# Altium footprint library Trans_STMicroelectronics_TIP31C_eec_MFG.PcbLib: 1 footprints
Each footprint in its own frame and in the unit in brackets; x right, y up, seen from the top. Pads: shape width x height; smd on the part's side, far side on the other; paste and mask are expansions set on the pad; w line width, h text height; cw(c..) or ccw(c..) is an arc to the next point about the centre after c.
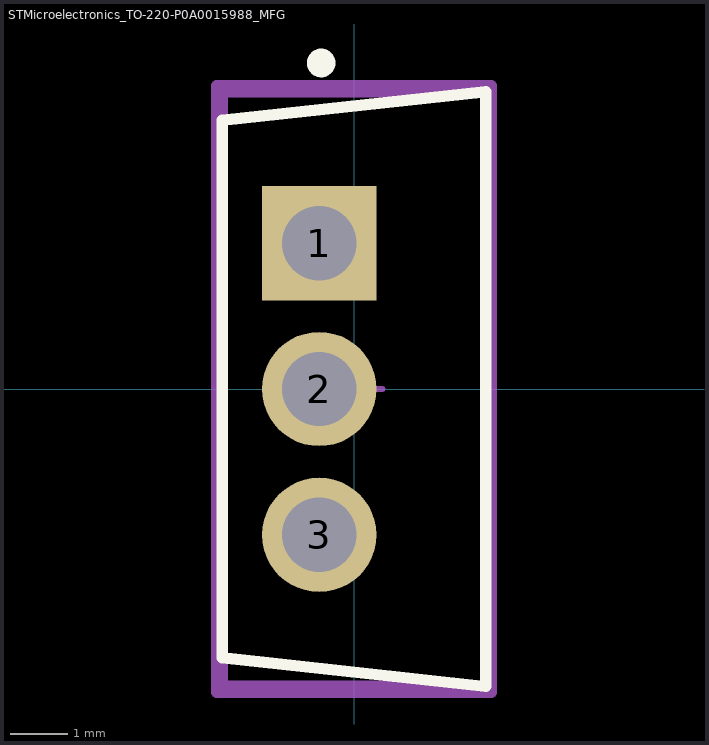
[diagram p0: the footprint, top view; thin cyan lines are the x and y axes]

## STMicroelectronics_TO-220-P0A0015988_MFG [mm]
pads (3):
  rect 2x2 hole 1.3 paste-1000 mask+0: 1(-0.607,2.55)
  round 2 hole 1.3 paste-1000 mask+0: 2(-0.607,0) 3(-0.607,-2.55)
Top Overlay:
  circle w0.25: c-0.575,5.7 r0.125
  lines w0.2: -2.3,-4.7 2.3,-5.2 2.3,5.2 -2.3,4.7 -2.3,-4.7
Mechanical 10:
  lines w0.2: -2.4,-5.3 2.4,-5.3 2.4,5.3 -2.4,5.3 -2.4,-5.3
  text ".Designator" at 0,0 h1
Mechanical 12:
  lines w0.2: -2.3,-5.2 2.3,-5.2 2.3,5.2 -2.3,5.2 -2.3,-5.2
Mechanical 15:
  lines w0.1: -0.5,0 0.5,0 ; 0,-0.5 0,0.5
  lines w0.2: -2.4,-5.3 2.4,-5.3 2.4,5.3 -2.4,5.3 -2.4,-5.3
3D body "Trans_STMicroelectronics_TIP31C_eec.STEP": height 0.25, standoff 0, extent -2.4,-5.3 2.4,5.3